# Altium schematic symbol library ESP8266.SchLib: 1 symbol
Pins are listed as number, name and electrical type; pins without a type are passive.

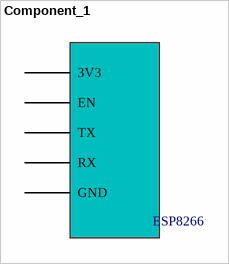
[diagram p0: symbol Component_1]

## Component_1
designator ESP8266  (value not drawn)
pins: 1 3V3, 2 EN, 3 TX, 4 RX, 5 GND